# Altium footprint library QFN_DFN.PcbLib: 70 footprints (part 2 of 5)
Each footprint in its own frame and in the unit in brackets; x right, y up, seen from the top. Pads: shape width x height; smd on the part's side, far side on the other; paste and mask are expansions set on the pad; w line width, h text height; cw(c..) or ccw(c..) is an arc to the next point about the centre after c.
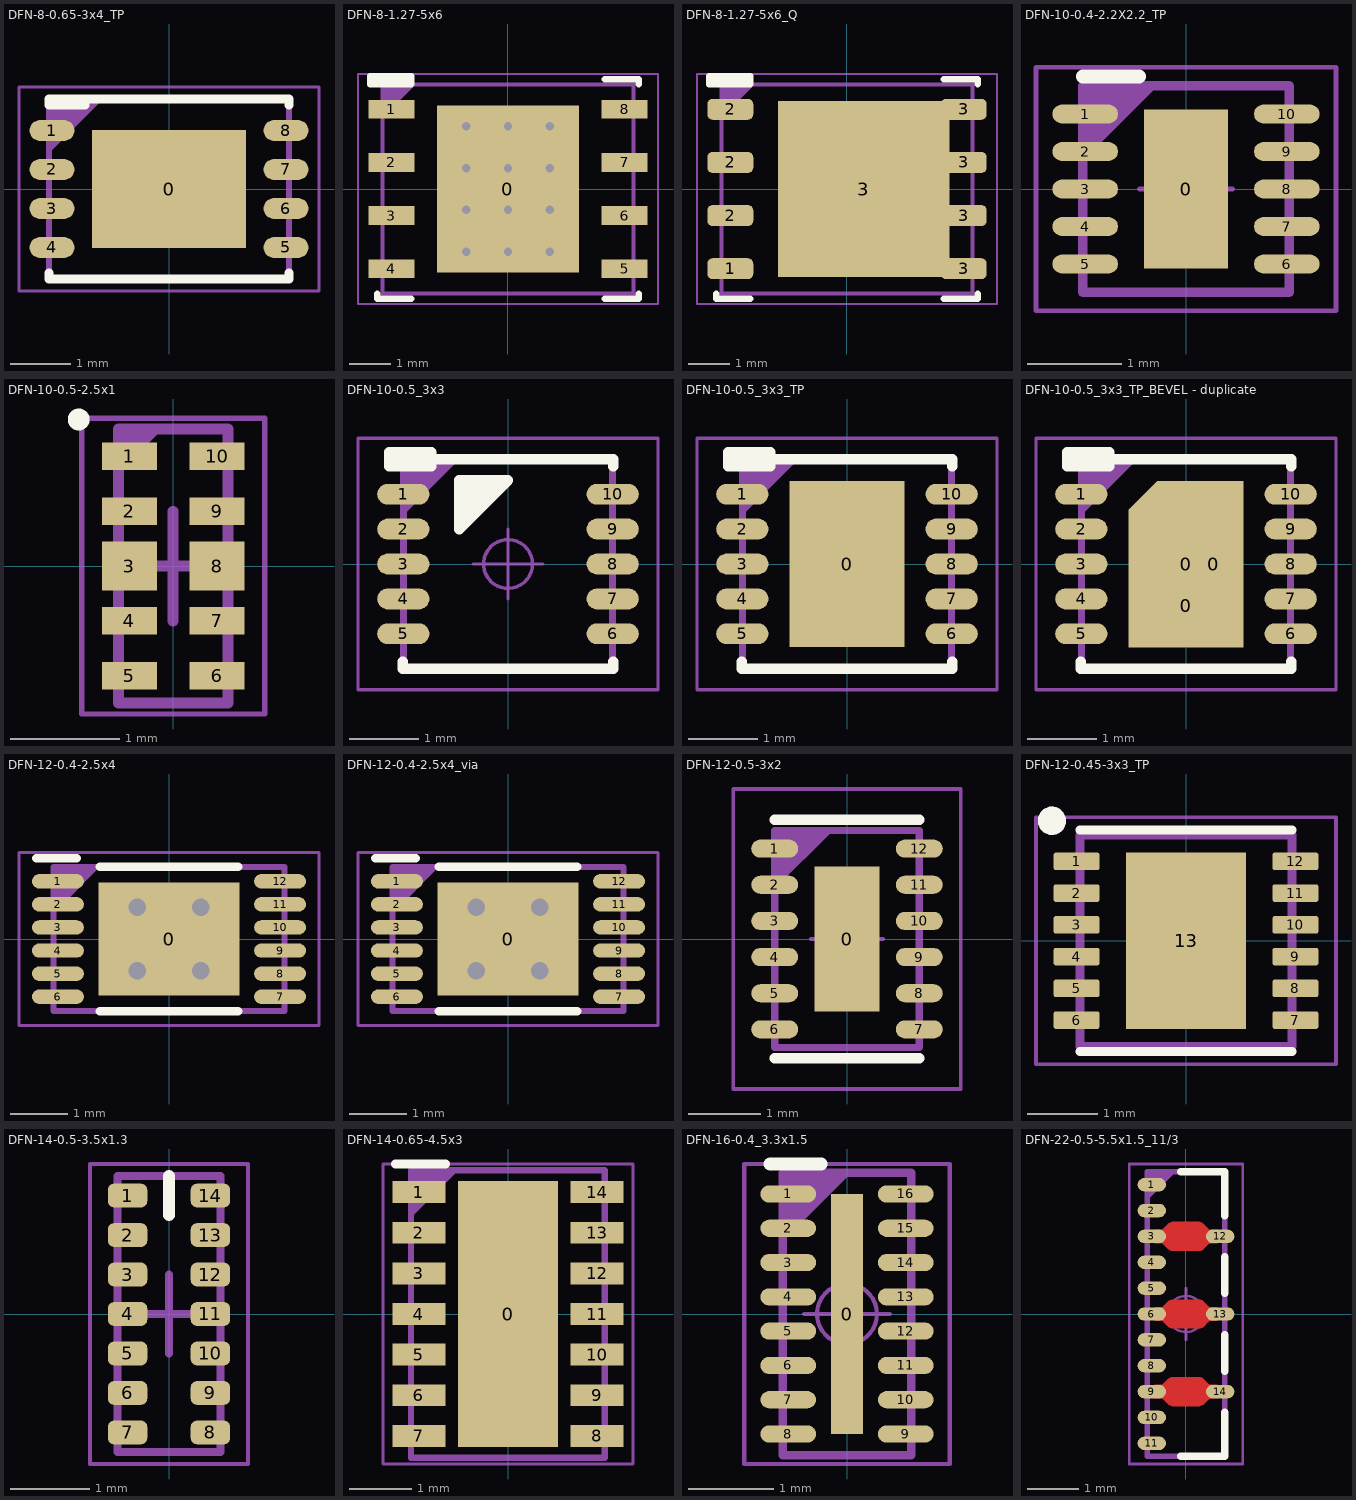
[diagram p1: the footprints below, top view; thin cyan lines are the x and y axes]

## DFN-8-0.65-3x4_TP [mm] "QFN, 8-Leads, Body 4,00x3,00mm, Pitch 0,65mm, Thermal Pad 2,40x1,80mm, IPC Medium Density"
height 0.8
pads (9):
  rect 2.56x1.96 smd: 0(0,0)
  oval 0.75x0.35 smd: 1(-1.95,0.975) 2(-1.95,0.325) 3(-1.95,-0.325) 4(-1.95,-0.975) 5(1.95,-0.975) 6(1.95,-0.325) 7(1.95,0.325) 8(1.95,0.975)
Top Overlay:
  lines w0.15: -2,-1.4 -2,-1.5 2,-1.5 2,-1.4 ; -1.4,1.5 -1.4,1.4 -2,1.4 -2,1.5 2,1.5 2,1.4
ASM Top:
  region: -2,1.5 -2,0.6 -1.1,1.5
  lines w0.1: -2,-1.5 2,-1.5 2,1.5 -2,1.5 -2,-1.5
  text ".Designator" at -0.7,-0.3 h0.5
PNP Top:
  circle w0.05: c0,0 r0.35
  lines w0.05: -0.5,0 0.5,0 ; 0,-0.5 0,0.5 ; -2.5,-1.7 2.5,-1.7 2.5,1.7 -2.5,1.7 -2.5,-1.7
3D body "QFN65P400X300X80_HS-9N.step": height 0.8, standoff 0, extent -2.05,-1.5 2.05,1.5

## DFN-8-1.27-5x6 [mm] "SON, 8-Leads, Body 5,00x6,00mm, Pitch 1,27mm, Thermal Pad 4,00x3,40mm, IPC Medium Density"
height 0.55
pads (9):
  rect 3.4x4 smd paste-1.7: 0(0,0)
  rect 1.1x0.45 smd: 1(-2.79,1.905) 2(-2.79,0.635) 3(-2.79,-0.635) 4(-2.79,-1.905) 5(2.79,-1.905) 6(2.79,-0.635) 7(2.79,0.635) 8(2.79,1.905)
via 1,-1.5 diameter 0.45 hole 0.2
via 0,-1.5 diameter 0.45 hole 0.2
via -1,-1.5 diameter 0.45 hole 0.2
via 1,-0.5 diameter 0.45 hole 0.2
via 0,-0.5 diameter 0.45 hole 0.2
via -1,-0.5 diameter 0.45 hole 0.2
via 1,0.5 diameter 0.45 hole 0.2
via 0,0.5 diameter 0.45 hole 0.2
via -1,0.5 diameter 0.45 hole 0.2
via 1,1.5 diameter 0.45 hole 0.2
via 0,1.5 diameter 0.45 hole 0.2
via -1,1.5 diameter 0.45 hole 0.2
Top Overlay:
  lines w0.15: -3.3,2.602 -2.315,2.602 ; -3.125,-2.505 -3.125,-2.625 -2.315,-2.625 ; 2.315,-2.625 3.125,-2.625 3.125,-2.505 ; 2.315,2.625 3.125,2.625 3.125,2.505 ; -3.3,2.505 -2.315,2.505 -2.315,2.7 -3.3,2.7 -3.3,2.505
Top Paste:
  rectangle: 0.665,-1.895 1.595,-0.765
  rectangle: 0.665,-0.565 1.595,0.565
  rectangle: 0.665,0.765 1.595,1.895
  rectangle: -0.465,-1.895 0.465,-0.765
  rectangle: -0.465,-0.565 0.465,0.565
  rectangle: -0.465,0.765 0.465,1.895
  rectangle: -1.595,-1.895 -0.665,-0.765
  rectangle: -1.595,-0.565 -0.665,0.565
  rectangle: -1.595,0.765 -0.665,1.895
ASM Top:
  region: -3,2.5 -3,1.7 -2.2,2.5
  lines w0.1: -3,-2.5 3,-2.5 3,2.5 -3,2.5 -3,-2.5
  text ".Designator" at -1.15,-0.1 h0.5
PNP Top:
  circle w0.05: c0,0 r0.35
  lines w0.05: -0.5,0 0.5,0 ; 0,-0.5 0,0.5 ; -3.585,-2.75 3.585,-2.75 3.585,2.75 -3.585,2.75 -3.585,-2.75
3D body "SON127P600X55_HS-9N.step": height 0.55, standoff 0, extent -3.05,-2.5 3.05,2.5

## DFN-8-1.27-5x6_Q [mm] "SON, 8-Leads, Body 5,00x6,00mm, Pitch 1,27mm, Thermal Pad 4,00x3,40mm, IPC Medium Density"
height 0.55
pads (9):
  rrect50% 1.1x0.5 smd: 1(-2.79,-1.905) 2(-2.79,-0.635) 2(-2.79,0.635) 2(-2.79,1.905) 3(2.79,-1.905) 3(2.79,-0.635) 3(2.79,0.635) 3(2.79,1.905)
  rect 4.1x4.2 smd paste-1.7: 3(0.4,0)
Top Overlay:
  lines w0.15: -3.3,2.602 -2.315,2.602 ; -3.125,-2.505 -3.125,-2.625 -2.315,-2.625 ; 2.315,-2.625 3.125,-2.625 3.125,-2.505 ; 2.315,2.625 3.125,2.625 3.125,2.505 ; -3.3,2.505 -3.3,2.7 -2.315,2.7 -2.315,2.505 -3.3,2.505
Top Paste:
  rectangle: -1.595,0.765 -0.665,1.895
  rectangle: -1.595,-0.565 -0.665,0.565
  rectangle: -1.595,-1.895 -0.665,-0.765
  rectangle: -0.465,0.765 0.465,1.895
  rectangle: -0.465,-0.565 0.465,0.565
  rectangle: -0.465,-1.895 0.465,-0.765
  rectangle: 0.665,0.765 1.595,1.895
  rectangle: 0.665,-0.565 1.595,0.565
  rectangle: 0.665,-1.895 1.595,-0.765
ASM Top:
  region: -3,2.5 -3,1.7 -2.2,2.5
  lines w0.1: -3,-2.5 -3,2.5 3,2.5 3,-2.5 -3,-2.5
  text ".Designator" at -1.15,-0.1 h0.5
PNP Top:
  circle w0.05: c0,0 r0.35
  lines w0.05: -0.5,0 0.5,0 ; 0,-0.5 0,0.5 ; -3.585,-2.75 -3.585,2.75 3.585,2.75 3.585,-2.75 -3.585,-2.75
3D body "SON127P600X55_HS-9N.step": height 0.55, standoff 0, extent -3.05,-2.5 3.05,2.5

## DFN-10-0.4-2.2X2.2_TP [mm] "QFN, 10-Leads, Body 2,20x2,20mm, Pitch 0,40mm, Thermal Pad 0,90x1,70mm, IPC Medium Density"
height 0.8
pads (11):
  rect 0.9x1.7 smd: 0(0,0)
  oval 0.7x0.2 smd: 1(-1.075,0.8) 2(-1.075,0.4) 3(-1.075,0) 4(-1.075,-0.4) 5(-1.075,-0.8) 6(1.075,-0.8) 7(1.075,-0.4) 8(1.075,0) 9(1.075,0.4) 10(1.075,0.8)
Top Overlay:
  lines w0.15: -1.1,1.2 -0.5,1.2
ASM Top:
  region: -1.1,1.1 -1.1,0.3 -0.3,1.1
  lines w0.1: -1.1,-1.1 -1.1,1.1 1.1,1.1 1.1,-1.1 -1.1,-1.1
PNP Top:
  circle w0.05: c0,0 r0.35
  lines w0.05: -0.5,0 0.5,0 ; 0,-0.5 0,0.5 ; -1.6,-1.3 -1.6,1.3 1.6,1.3 1.6,-1.3 -1.6,-1.3
3D body "QFN40P220X220X80_HS-11N.step": height 0.8, standoff 0, extent -1.15,-1.1 1.15,1.1

## DFN-10-0.5-2.5x1 [mm] "SON, 10-Leads, Body 2,50x1,00mm, Pitch 0,50mm, IPC High Density"
height 0.5
pads (10):
  rect 0.5x0.25 smd: 1(-0.4,1) 2(-0.4,0.5) 4(-0.4,-0.5) 5(-0.4,-1) 6(0.4,-1) 7(0.4,-0.5) 9(0.4,0.5) 10(0.4,1)
  rect 0.5x0.45 smd: 3(-0.4,0) 8(0.4,0)
Top Overlay:
  circle w0.1: c-0.862,1.337 r0.05
3D Top:
  lines w0.1: -0.5,-1.25 0.5,-1.25 0.5,1.25 -0.5,1.25 -0.5,-1.25
ASM Top:
  region: -0.5,1.25 -0.5,0.85 -0.1,1.25
  lines w0.1: -0.5,-1.25 -0.5,1.25 0.5,1.25 0.5,-1.25 -0.5,-1.25
  text ".Designator" at -0.2,-0.1 h0.3
PNP Top:
  lines w0.05: -0.835,-1.35 0.835,-1.35 0.835,1.35 -0.835,1.35 -0.835,-1.35
  lines w0.1: -0.5,0 0.5,0 ; 0,-0.5 0,0.5
3D body "SON50P100X50-10L.step": height 0.5, standoff 0.1, extent -0.5,-1.25 0.5,1.25

## DFN-10-0.5_3x3 [mm] "SON, 0.50mm Pitch, 10-pin, 3.00mm W  X 3.00mm L X 0.80mm Height, (w/thermal tab 1.75 X 2.48 mm), IPC Medium Density"
height 0.8
pads (10):
  oval 0.75x0.3 smd: 1(-1.5,1) 2(-1.5,0.5) 3(-1.5,0) 4(-1.5,-0.5) 5(-1.5,-1) 6(1.5,-1) 7(1.5,-0.5) 8(1.5,0) 9(1.5,0.5) 10(1.5,1)
Top Overlay:
  lines w0.15: -1.51,1.4 -1.51,1.5 ; -0.6,0.7 -0.6,1.2 ; -0.5,0.8 -0.5,1.2 ; -0.4,0.9 -0.4,1.2 ; -0.3,0.9 -0.3,1.2 ; -0.2,1 -0.2,1.2 ; -1.7,1.5 1.51,1.5 ; -1.7,1.5 -1.7,1.6 -1.1,1.6 -1.1,1.4 -1.7,1.4 -1.7,1.5 ; -1.51,-1.5 1.51,-1.5 ; -1.51,-1.5 -1.51,-1.4 -1.51,-1.5 ; 1.51,-1.5 1.51,-1.4 1.51,-1.5 ; 1.51,1.5 1.51,1.4 1.51,1.5 ; -0.7,0.5 0,1.2 -0.7,1.2 -0.7,0.5
ASM Top:
  region: -1.5,1.5 -1.5,0.7 -0.7,1.5
  lines w0.1: -1.5,-1.5 1.5,-1.5 1.5,1.5 -1.5,1.5 -1.5,-1.5
  text ".Designator" at -1.15,-0.2 h0.5
PNP Top:
  circle w0.05: c0,0 r0.35
  lines w0.05: -0.5,0 0.5,0 ; 0,-0.5 0,0.5 ; -2.15,-1.8 -2.15,1.8 2.15,1.8 2.15,-1.8 -2.15,-1.8
3D body "SON50P300X300X80-11N-R175X248.stp": height 0.8, standoff 0, extent -1.5,-1.5 1.5,1.5

## DFN-10-0.5_3x3_TP [mm] "SON, 0.50mm Pitch, 10-pin, 3.00mm W  X 3.00mm L X 0.80mm Height, (w/thermal tab 1.75 X 2.48 mm), IPC Medium Density"
height 0.8
pads (11):
  rect 1.65x2.38 smd: 0(0,0)
  oval 0.75x0.3 smd: 1(-1.5,1) 2(-1.5,0.5) 3(-1.5,0) 4(-1.5,-0.5) 5(-1.5,-1) 6(1.5,-1) 7(1.5,-0.5) 8(1.5,0) 9(1.5,0.5) 10(1.5,1)
Top Overlay:
  lines w0.15: -1.51,1.4 -1.51,1.5 ; -1.7,1.5 1.51,1.5 ; -1.7,1.5 -1.7,1.4 -1.1,1.4 -1.1,1.6 -1.7,1.6 -1.7,1.5 ; -1.51,-1.5 1.51,-1.5 ; -1.51,-1.5 -1.51,-1.4 -1.51,-1.5 ; 1.51,-1.5 1.51,-1.4 1.51,-1.5 ; 1.51,1.5 1.51,1.4 1.51,1.5
ASM Top:
  region: -1.5,1.5 -1.5,0.7 -0.7,1.5
  lines w0.1: -1.5,-1.5 1.5,-1.5 1.5,1.5 -1.5,1.5 -1.5,-1.5
  text ".Designator" at -1.15,-0.2 h0.5
PNP Top:
  circle w0.05: c0,0 r0.35
  lines w0.05: -0.5,0 0.5,0 ; 0,-0.5 0,0.5 ; -2.15,-1.8 -2.15,1.8 2.15,1.8 2.15,-1.8 -2.15,-1.8
3D body "SON50P300X300X80-11N-R175X248.stp": height 0.8, standoff 0, extent -1.5,-1.5 1.5,1.5

## DFN-10-0.5_3x3_TP_BEVEL - duplicate [mm] "SON, 0.50mm Pitch, 10-pin, 3.00mm W  X 3.00mm L X 0.80mm Height, (w/thermal tab 1.75 X 2.48 mm), IPC Medium Density"
height 0.8
pads (13):
  rect 1.65x1.19 smd: 0(0,-0.6)
  oct 1.65x2.38 smd: 0(0,0)
  rect 0.85x2.38 smd: 0(0.4,0)
  oval 0.75x0.3 smd: 1(-1.5,1) 2(-1.5,0.5) 3(-1.5,0) 4(-1.5,-0.5) 5(-1.5,-1) 6(1.5,-1) 7(1.5,-0.5) 8(1.5,0) 9(1.5,0.5) 10(1.5,1)
Top Overlay:
  lines w0.15: -1.51,1.4 -1.51,1.5 ; -1.7,1.5 1.51,1.5 ; -1.7,1.5 -1.7,1.4 -1.1,1.4 -1.1,1.6 -1.7,1.6 -1.7,1.5 ; -1.51,-1.5 1.51,-1.5 ; -1.51,-1.5 -1.51,-1.4 -1.51,-1.5 ; 1.51,-1.5 1.51,-1.4 1.51,-1.5 ; 1.51,1.5 1.51,1.4 1.51,1.5
ASM Top:
  region: -1.5,1.5 -1.5,0.7 -0.7,1.5
  lines w0.1: -1.5,-1.5 1.5,-1.5 1.5,1.5 -1.5,1.5 -1.5,-1.5
  text ".Designator" at -1.15,-0.2 h0.5
PNP Top:
  circle w0.05: c0,0 r0.35
  lines w0.05: -0.5,0 0.5,0 ; 0,-0.5 0,0.5 ; -2.15,-1.8 -2.15,1.8 2.15,1.8 2.15,-1.8 -2.15,-1.8
3D body "SON50P300X300X80-11N-R175X248.stp": height 0.8, standoff 0, extent -1.5,-1.5 1.5,1.5

## DFN-12-0.4-2.5x4 [mm] "QFN, 12-Leads, Body 4,00x2,50mm, Pitch 0,40mm, Thermal Pad 2,45x1,95mm, IPC Medium Density"
height 1
pads (13):
  rect 2.45x1.95 smd: 0(0,0)
  oval 0.9x0.25 smd: 1(-1.925,1) 2(-1.925,0.6) 3(-1.925,0.2) 4(-1.925,-0.2) 5(-1.925,-0.6) 6(-1.925,-1) 7(1.925,-1) 8(1.925,-0.6) 9(1.925,-0.2) 10(1.925,0.2) 11(1.925,0.6) 12(1.925,1)
via 0.55,-0.55 diameter 0.7 hole 0.3
via -0.55,-0.55 diameter 0.7 hole 0.3
via 0.55,0.55 diameter 0.7 hole 0.3
via -0.55,0.55 diameter 0.7 hole 0.3
Top Overlay:
  lines w0.15: -2.3,1.4 -1.6,1.4 ; -1.2,-1.25 1.2,-1.25 ; -1.2,1.25 1.2,1.25
ASM Top:
  region: -2,1.25 -2,0.45 -1.2,1.25
  lines w0.1: -2,-1.25 2,-1.25 2,1.25 -2,1.25 -2,-1.25
  text ".Designator" at -1.15,-0.1 h0.5
PNP Top:
  circle w0.05: c0,0 r0.35
  lines w0.05: -0.5,0 0.5,0 ; 0,-0.5 0,0.5 ; -2.6,-1.5 2.6,-1.5 2.6,1.5 -2.6,1.5 -2.6,-1.5
3D body "QFN40P400X250X100_HS-13N.step": height 1, standoff 0, extent -2.05,-1.25 2.05,1.25

## DFN-12-0.4-2.5x4_via [mm] "QFN, 12-Leads, Body 4,00x2,50mm, Pitch 0,40mm, Thermal Pad 2,45x1,95mm, IPC Medium Density"
height 1
pads (13):
  rect 2.45x1.95 smd: 0(0,0)
  oval 0.9x0.25 smd: 1(-1.925,1) 2(-1.925,0.6) 3(-1.925,0.2) 4(-1.925,-0.2) 5(-1.925,-0.6) 6(-1.925,-1) 7(1.925,-1) 8(1.925,-0.6) 9(1.925,-0.2) 10(1.925,0.2) 11(1.925,0.6) 12(1.925,1)
via -0.55,0.55 diameter 0.7 hole 0.3
via 0.55,0.55 diameter 0.7 hole 0.3
via -0.55,-0.55 diameter 0.7 hole 0.3
via 0.55,-0.55 diameter 0.7 hole 0.3
Top Overlay:
  lines w0.15: -2.3,1.4 -1.6,1.4 ; -1.2,-1.25 1.2,-1.25 ; -1.2,1.25 1.2,1.25
ASM Top:
  region: -2,1.25 -2,0.45 -1.2,1.25
  lines w0.1: -2,-1.25 -2,1.25 2,1.25 2,-1.25 -2,-1.25
  text ".Designator" at -1.15,-0.1 h0.5
PNP Top:
  circle w0.05: c0,0 r0.35
  lines w0.05: -0.5,0 0.5,0 ; 0,-0.5 0,0.5 ; -2.6,-1.5 -2.6,1.5 2.6,1.5 2.6,-1.5 -2.6,-1.5
3D body "QFN40P400X250X100_HS-13N.step": height 1, standoff 0, extent -2.05,-1.25 2.05,1.25

## DFN-12-0.5-3x2 [mm] "QFN, 16-Leads, Body 2,00x3,00mm, Pitch 0,50mm, Thermal Pad 0,90x2,00mm, IPC Medium Density"
height 0.8
pads (13):
  rect 0.9x2 smd: 0(0,0)
  oval 0.65x0.25 smd: 1(-1,1.25) 2(-1,0.75) 3(-1,0.25) 4(-1,-0.25) 5(-1,-0.75) 6(-1,-1.25) 7(1,-1.25) 8(1,-0.75) 9(1,-0.25) 10(1,0.25) 11(1,0.75) 12(1,1.25)
Top Overlay:
  lines w0.15: -1,-1.65 1,-1.65 ; -1,1.65 1,1.65
ASM Top:
  region: -1,1.5 -1,0.7 -0.2,1.5
  lines w0.1: -1,-1.5 1,-1.5 1,1.5 -1,1.5 -1,-1.5
  text ".Designator" at -0.4,-0.4 h0.5
PNP Top:
  circle w0.05: c0,0 r0.35
  lines w0.05: -0.5,0 0.5,0 ; 0,-0.5 0,0.5 ; -1.575,-2.075 1.575,-2.075 1.575,2.075 -1.575,2.075 -1.575,-2.075
3D body "QFN50P200X300X80_HS-17N.step": height 0.8, standoff 0, extent -1.08,-1.58 1.08,1.58

## DFN-12-0.45-3x3_TP [mm]
pads (13):
  rrect25% 0.65x0.25 smd: 1(-1.55,1.125) 2(-1.55,0.675) 3(-1.55,0.225) 4(-1.55,-0.225) 5(-1.55,-0.675) 6(-1.55,-1.125) 7(1.55,-1.125) 8(1.55,-0.675) 9(1.55,-0.225) 10(1.55,0.225) 11(1.55,0.675) 12(1.55,1.125)
  rect 1.7x2.5 smd paste-2: 13(0,0)
Top Overlay:
  circle w0.2: c-1.9,1.7 r0.1
  lines w0.127: -1.5,-1.57 1.5,-1.57 ; -1.5,1.57 1.5,1.57
Top Paste:
  region: 0.54,-0.79 -0.54,-0.79 -0.54,0.79 0.54,0.79
3D Top:
  circle w0.2: c-1.9,1.7 r0.1
  lines w0.127: -1.5,-1.5 1.5,-1.5 1.5,1.5 -1.5,1.5 -1.5,-1.5
PNP Top:
  lines w0.05: -2.125,-1.75 2.125,-1.75 2.125,1.75 -2.125,1.75 -2.125,-1.75

## DFN-14-0.5-3.5x1.3 [mm]
pads (14):
  rrect50% 0.5x0.3 smd: 1(-0.525,1.5) 2(-0.525,1) 3(-0.525,0.5) 4(-0.525,0) 5(-0.525,-0.5) 6(-0.525,-1) 7(-0.525,-1.5) 8(0.525,-1.5) 9(0.525,-1) 10(0.525,-0.5) 11(0.525,0) 12(0.525,0.5) 13(0.525,1) 14(0.525,1.5)
Top Overlay:
  lines w0.15: 0,1.25 0,1.75
3D Top:
  lines w0.1: -0.65,-1.75 -0.65,1.75 0.65,1.75 0.65,-1.75 -0.65,-1.75
ASM Top:
  lines w0.1: -0.65,-1.75 -0.65,1.75 0.65,1.75 0.65,-1.75 -0.65,-1.75
  text ".Designator" at -0.2,-0.3 h0.6
PNP Top:
  lines w0.05: -1,-1.9 1,-1.9 1,1.9 -1,1.9 -1,-1.9
  lines w0.1: -0.5,0 0.5,0 ; 0,-0.5 0,0.5
3D body "uDFN14.stp": height 0.49, standoff -0.01, extent -0.65,-1.75 0.65,1.75

## DFN-14-0.65-4.5x3 [mm] "QFN, 14-Leads, Body 3,00x4,50mm, Pitch 0,65mm, Thermal Pad 1,60x3,00mm, IPC Medium Density"
height 0.8
pads (15):
  rect 1.6x4.25 smd: 0(0,0)
  rect 0.85x0.35 smd: 1(-1.425,1.95) 2(-1.425,1.3) 3(-1.425,0.65) 4(-1.425,0) 5(-1.425,-0.65) 6(-1.425,-1.3) 7(-1.425,-1.95) 8(1.425,-1.95) 9(1.425,-1.3) 10(1.425,-0.65) 11(1.425,0) 12(1.425,0.65) 13(1.425,1.3) 14(1.425,1.95)
Top Overlay:
  lines w0.15: -1.8,2.4 -1,2.4
ASM Top:
  region: -1.55,2.3 -0.8,2.3 -1.55,1.55
  lines w0.1: -1.55,-2.3 -1.55,2.3 1.55,2.3 1.55,-2.3 -1.55,-2.3
  text ".Designator" at -1,-0.6 h1
PNP Top:
  lines w0.05: -2,-2.4 -2,2.4 2,2.4 2,-2.4 -2,-2.4
  lines w0.1: -0.5,0 0.5,0 ; 0,-0.5 0,0.5
3D body "QFN65P300X450X80_HS-15N.step": height 0.8, standoff 0, extent -1.6,-2.3 1.6,2.3

## DFN-16-0.4_3.3x1.5 [mm]
height 0.55
pads (17):
  rect 0.37x2.8 smd: 0(0,0)
  oval 0.65x0.2 smd: 1(-0.685,1.4) 2(-0.685,1) 3(-0.685,0.6) 4(-0.685,0.2) 5(-0.685,-0.2) 6(-0.685,-0.6) 7(-0.685,-1) 8(-0.685,-1.4) 9(0.685,-1.4) 10(0.685,-1) 11(0.685,-0.6) 12(0.685,-0.2) 13(0.685,0.2) 14(0.685,0.6) 15(0.685,1) 16(0.685,1.4)
Top Overlay:
  lines w0.15: -0.9,1.75 -0.3,1.75
ASM Top:
  region: -0.75,1.65 -0.75,0.85 0.05,1.65
  lines w0.1: -0.75,-1.65 0.75,-1.65 0.75,1.65 -0.75,1.65 -0.75,-1.65
  text ".Designator" at -0.4,-0.3 h0.5
PNP Top:
  circle w0.05: c0,0 r0.35
  lines w0.05: -0.5,0 0.5,0 ; 0,-0.5 0,0.5 ; -1.2,-1.75 1.2,-1.75 1.2,1.75 -1.2,1.75 -1.2,-1.75
3D body "SON127P600-8N.step": height 0.55, standoff 0, extent -0.77,-1.65 0.77,1.65

## DFN-22-0.5-5.5x1.5_11/3 [mm] "UDFN14"
height 0.5
pads (14):
  oval 0.55x0.26 smd: 1(-0.66,2.5) 2(-0.66,2) 3(-0.66,1.5) 4(-0.66,1) 5(-0.66,0.5) 6(-0.66,0) 7(-0.66,-0.5) 8(-0.66,-1) 9(-0.66,-1.5) 10(-0.66,-2) 11(-0.66,-2.5) 12(0.66,1.5) 13(0.66,0) 14(0.66,-1.5)
Top Layer:
  region: -0.428,-1.341 -0.34,-1.256 -0.331,-1.248 -0.31,-1.234 -0.287,-1.225 -0.262,-1.22 -0.25,-1.22 0.246,-1.22 0.26,-1.22 0.286,-1.225 0.311,-1.235 0.333,-1.25 0.343,-1.26 0.453,-1.37 0.608,-1.37 0.608,-1.63 0.5,-1.63 0.489,-1.63 0.467,-1.635 0.446,-1.643 0.427,-1.656 0.419,-1.663 0.34,-1.743 0.331,-1.752 0.31,-1.765 0.287,-1.775 0.263,-1.78 0.25,-1.78 -0.25,-1.78 -0.263,-1.78 -0.287,-1.775 -0.31,-1.766 -0.331,-1.752 -0.34,-1.743 -0.428,-1.659 -0.435,-1.652 -0.452,-1.642 -0.47,-1.634 -0.49,-1.63 -0.5,-1.63 -0.608,-1.63 -0.608,-1.37 -0.5,-1.37 -0.49,-1.369 -0.47,-1.366 -0.452,-1.358 -0.435,-1.347
  region: -0.428,0.159 -0.34,0.244 -0.331,0.252 -0.31,0.266 -0.287,0.275 -0.262,0.28 -0.25,0.28 0.246,0.28 0.26,0.28 0.286,0.275 0.311,0.265 0.333,0.25 0.343,0.24 0.453,0.13 0.608,0.13 0.608,-0.13 0.5,-0.13 0.489,-0.13 0.467,-0.135 0.446,-0.143 0.427,-0.156 0.419,-0.163 0.34,-0.243 0.331,-0.252 0.31,-0.265 0.287,-0.275 0.263,-0.28 0.25,-0.28 -0.25,-0.28 -0.263,-0.28 -0.287,-0.275 -0.31,-0.266 -0.331,-0.252 -0.34,-0.243 -0.428,-0.159 -0.435,-0.152 -0.452,-0.142 -0.47,-0.134 -0.49,-0.13 -0.5,-0.13 -0.608,-0.13 -0.608,0.13 -0.5,0.13 -0.49,0.131 -0.47,0.134 -0.452,0.142 -0.435,0.153
  region: -0.428,1.659 -0.34,1.744 -0.331,1.752 -0.31,1.766 -0.287,1.775 -0.262,1.78 -0.25,1.78 0.246,1.78 0.26,1.78 0.286,1.775 0.311,1.765 0.333,1.75 0.343,1.74 0.453,1.63 0.608,1.63 0.608,1.37 0.5,1.37 0.489,1.37 0.467,1.365 0.446,1.357 0.427,1.344 0.419,1.337 0.34,1.257 0.331,1.248 0.31,1.235 0.287,1.225 0.263,1.22 0.25,1.22 -0.25,1.22 -0.263,1.22 -0.287,1.225 -0.31,1.234 -0.331,1.248 -0.34,1.257 -0.428,1.341 -0.435,1.348 -0.452,1.358 -0.47,1.366 -0.49,1.37 -0.5,1.37 -0.608,1.37 -0.608,1.63 -0.5,1.63 -0.49,1.631 -0.47,1.634 -0.452,1.642 -0.435,1.653
Top Overlay:
  lines w0.15: -0.1,-2.75 0.75,-2.75 0.75,-1.9 ; -0.1,2.75 0.75,2.75 0.75,1.9 ; 0.75,-1.1 0.75,-0.4 ; 0.75,0.4 0.75,1.1
ASM Top:
  region: -0.75,2.75 -0.75,2.2 -0.2,2.75
  lines w0.1: -0.75,-2.75 0.75,-2.75 0.75,2.75 -0.75,2.75 -0.75,-2.75
  text ".Designator" at -0.35,-0.75 h0.7
PNP Top:
  circle w0.05: c0,0 r0.35
  lines w0.05: -0.5,0 0.5,0 ; 0,-0.5 0,0.5 ; -1.1,-2.9 1.1,-2.9 1.1,2.9 -1.1,2.9 -1.1,-2.9
3D body: height 0.5, standoff 0.03, extent -0.75,-2.75 0.75,2.75